# EAGLE library part OPAMP-QUAD-STYLE2 (library ryans-common-components)
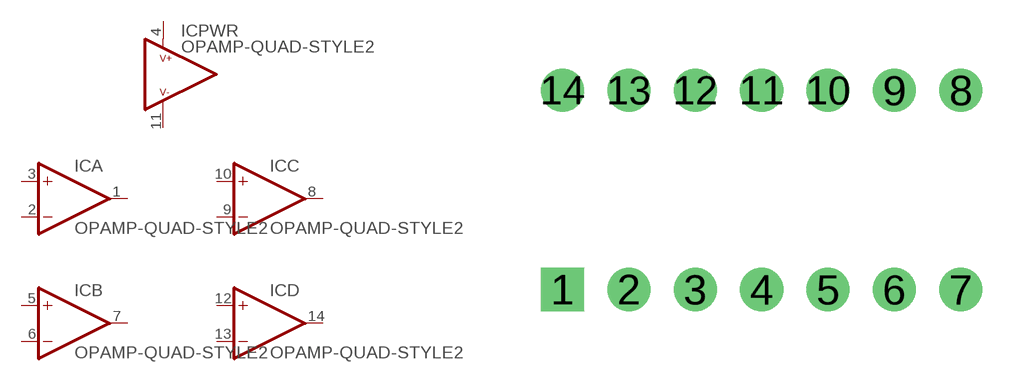
[diagram p17: symbol with the pads of DIP14-SOCKET; footprint DIP14-SOCKET]

Designator prefix IC; gates PWR=OPAMP-PWR A=OPAMP-MULT B=OPAMP-MULT C=OPAMP-MULT D=OPAMP-MULT

## OPAMP-QUAD-STYLE2-DIP14-SOCKET  [DIP14-SOCKET]
1  A:OUT
2  A:IN-
3  A:IN+
4  PWR:V+
5  B:IN+
6  B:IN-
7  B:OUT
8  C:OUT
9  C:IN-
10  C:IN+
11  PWR:V-
12  D:IN+
13  D:IN-
14  D:OUT

## Footprint DIP14-SOCKET (pad centres in mm)
drill 0.8 pad 1.651 square: 1 -7.62,-3.81
drill 0.8 pad 1.651: 2 -5.08,-3.81; 3 -2.54,-3.81; 4 0,-3.81; 5 2.54,-3.81; 6 5.08,-3.81; 7 7.62,-3.81; 8 7.62,3.81; 9 5.08,3.81; 10 2.54,3.81; 11 0,3.81; 12 -2.54,3.81; 13 -5.08,3.81; 14 -7.62,3.81